# Altium schematic symbol library kmilo17pet-Maxim_Sensors.SchLib: 1172 symbols (part 39 of 61)
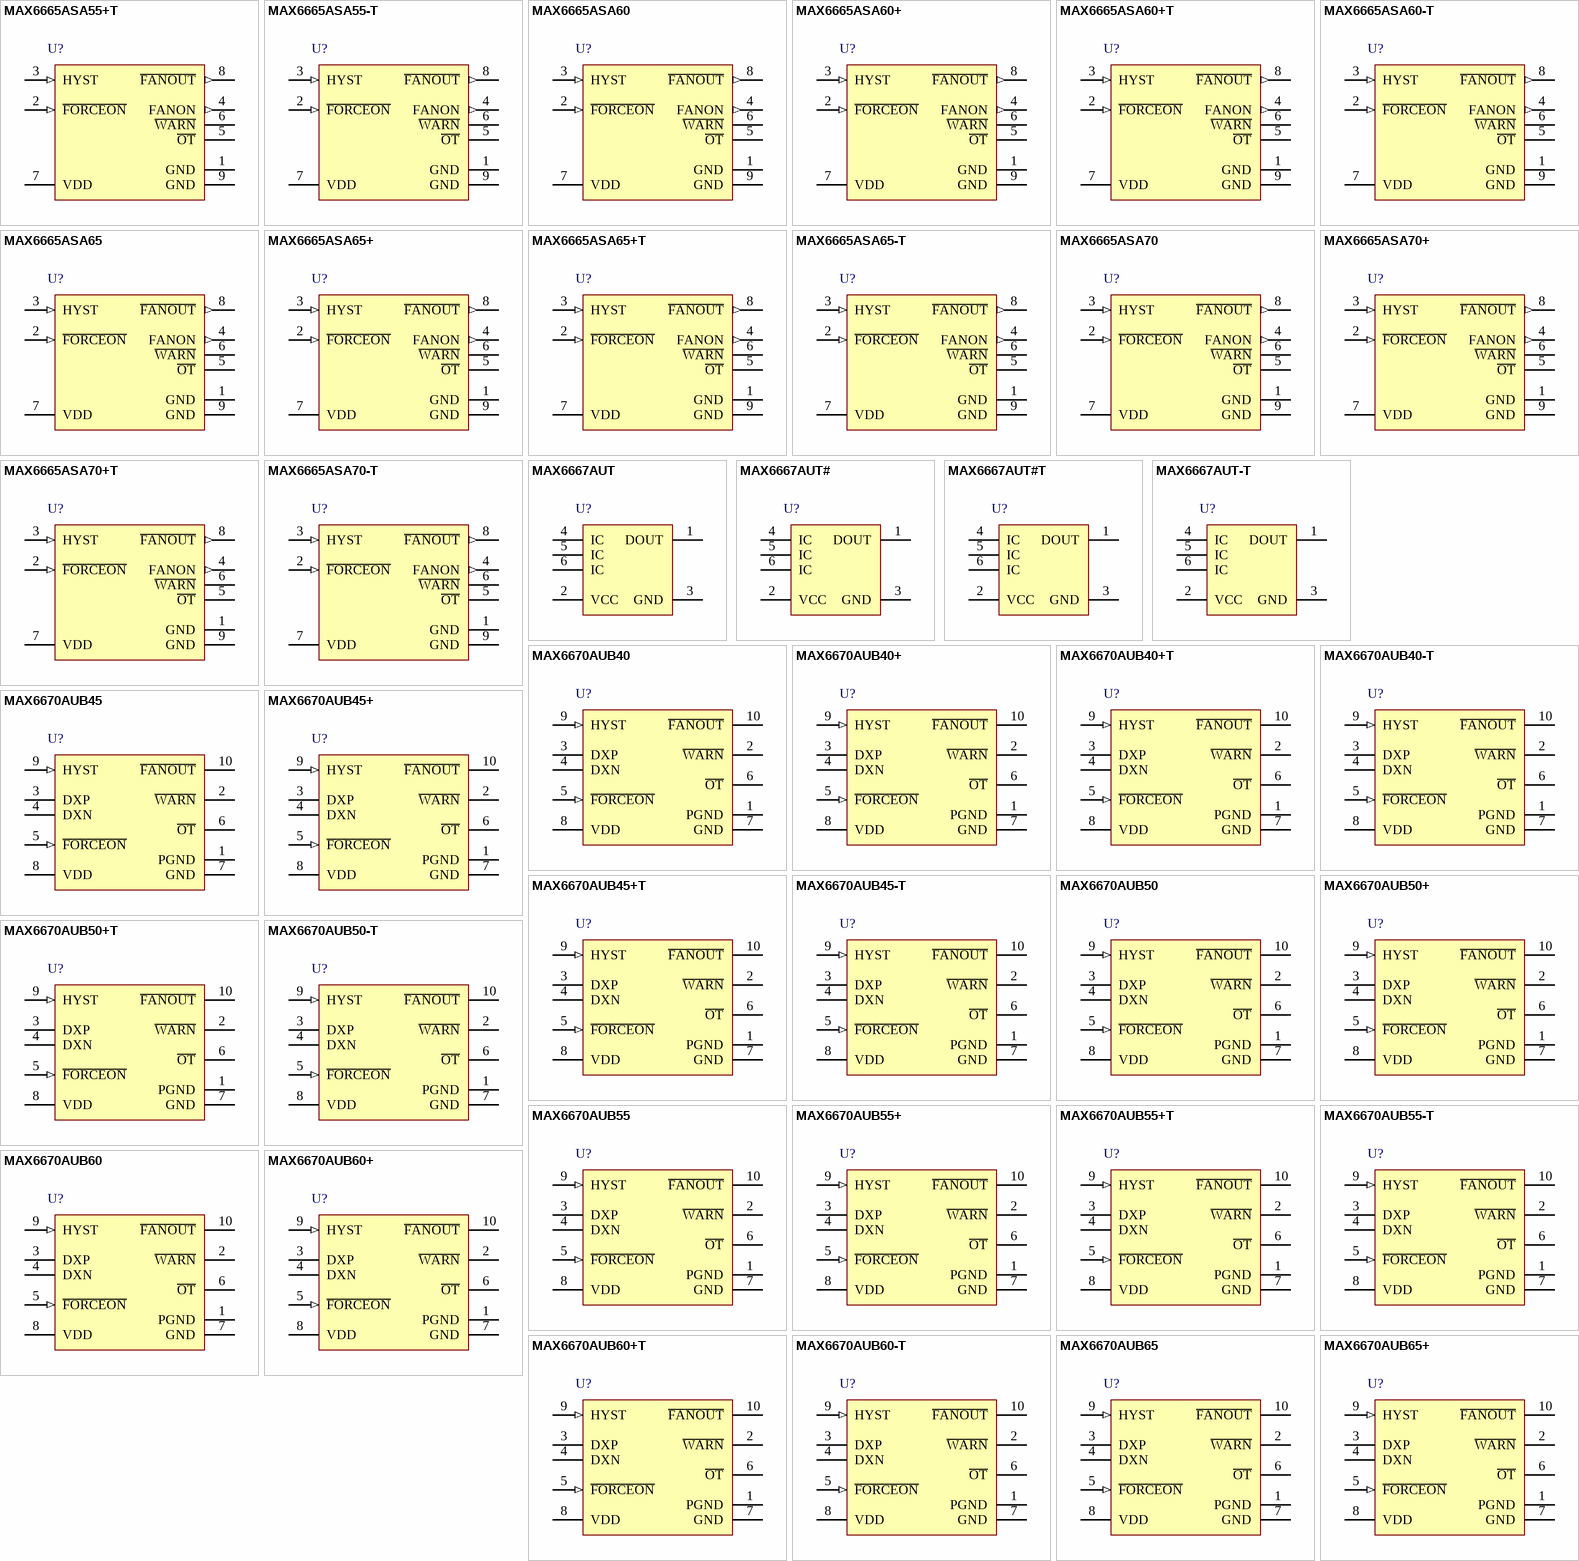
[diagram p71: symbols MAX6665ASA55+T to MAX6670AUB65+]

## MAX6665ASA65-T
designator U?
Fan Controller / Driver with Factory-Programmed Temperature Thresholds, -40 to 125 degC, 8-Pin SOIC (S8E-14), Tape and Reel; Generic Part Number: MAX6665; PartNumber: MAX6665ASA65-T; Fan Cntrl.: Linear; Fan Controller Functions: Temperature Switch/Temperature Comparator; Interface: Logic; DatasheetVersion: Rev. 0; PackageVersion: Rev. E, 01/2009; PackageReference: S8E-14; PackageDescription: 8-Pin Small-Outline IC, Narrow, Body 3.9 x 4.89 mm, Exposed Pad 2.945 x 2.26 mm, Pitch 1.27 mm; Supplier 1: Mouser; Supplier Part Number 1: N/A; Packing: Tape and Reel; Mounting Technology: Surface Mount; Code_JEDEC: MS-012; ComponentLink1Description: Manufacturer URL; ComponentLink1URL: http://www.maximintegrated.com/; ComponentLink2Description: Datasheet; ComponentLink2URL: http://datasheets.maximintegrated.com/en/ds/MAX6665.pdf; ComponentLink3Description: Package Specification; ComponentLink3URL: http://pdfserv.maximintegrated.com/package_dwgs/21-0111.PDF
footprint MAXM-S8E-14_N (SOIC, 8-Leads, Body 4.89x3.9mm, Pitch 1.27mm, Thermal Pad 2.945x2.26mm, IPC Medium Density)
footprint MAXM-S8E-14_L (SOIC, 8-Leads, Body 4.89x3.9mm, Pitch 1.27mm, Thermal Pad 2.945x2.26mm, IPC High Density)
footprint MAXM-S8E-14_M (SOIC, 8-Leads, Body 4.89x3.9mm, Pitch 1.27mm, Thermal Pad 2.945x2.26mm, IPC Low Density)
pins: 1 GND (power) "Ground", 2 ~{FORCEON} (in) "Force Fan On Input. Set F\O\R\C\E\O\N\ low to force the fan switch on. Set F\O\R\C\E\O\N\ high for normal operation.", 3 HYST (in) "Three-State Hysteresis Input. Connect HYST to VDD for 8degC, GND for 4degC, and leave HYST unconnected for 1degreesC hysteresis.", 4 FANON (out) "Fan-On Indicator Output. Push-pull output. FANON is high when the fan switch is on. FANON is low when the fan switch is off.", 5 ~{OT} (oc) "Overtemperature Output. Active-low when the temperature is 30degC above the fan threshold. Open-drain output, requires resistive pullup.", 6 ~{WARN} (oc) "Overtemperature Warning Output. Active-low when the temperature is 15degC above the fan threshold. Open-drain output, requires resistive pullup.", 7 VDD (power) "Supply Voltage. Bypass with a 1uF capacitor to GND as close to VDD pin as possible.", 8 ~{FANOUT} (out) "Fan-Switch (Driver) Output. Connect to the low side of a fan.", 9 GND (power) "Ground"

## MAX6665ASA70
designator U?
Fan Controller / Driver with Factory-Programmed Temperature Thresholds, -40 to 125 degC, 8-Pin SOIC (S8E-14); Generic Part Number: MAX6665; PartNumber: MAX6665ASA70; Fan Cntrl.: Linear; Fan Controller Functions: Temperature Switch/Temperature Comparator; Interface: Logic; DatasheetVersion: Rev. 0; PackageVersion: Rev. E, 01/2009; PackageReference: S8E-14; PackageDescription: 8-Pin Small-Outline IC, Narrow, Body 3.9 x 4.89 mm, Exposed Pad 2.945 x 2.26 mm, Pitch 1.27 mm; Supplier 1: Mouser; Supplier Part Number 1: N/A; Mounting Technology: Surface Mount; Code_JEDEC: MS-012; ComponentLink1Description: Manufacturer URL; ComponentLink1URL: http://www.maximintegrated.com/; ComponentLink2Description: Datasheet; ComponentLink2URL: http://datasheets.maximintegrated.com/en/ds/MAX6665.pdf; ComponentLink3Description: Package Specification; ComponentLink3URL: http://pdfserv.maximintegrated.com/package_dwgs/21-0111.PDF
footprint MAXM-S8E-14_N (SOIC, 8-Leads, Body 4.89x3.9mm, Pitch 1.27mm, Thermal Pad 2.945x2.26mm, IPC Medium Density)
footprint MAXM-S8E-14_L (SOIC, 8-Leads, Body 4.89x3.9mm, Pitch 1.27mm, Thermal Pad 2.945x2.26mm, IPC High Density)
footprint MAXM-S8E-14_M (SOIC, 8-Leads, Body 4.89x3.9mm, Pitch 1.27mm, Thermal Pad 2.945x2.26mm, IPC Low Density)
pins: 1 GND (power) "Ground", 2 ~{FORCEON} (in) "Force Fan On Input. Set F\O\R\C\E\O\N\ low to force the fan switch on. Set F\O\R\C\E\O\N\ high for normal operation.", 3 HYST (in) "Three-State Hysteresis Input. Connect HYST to VDD for 8degC, GND for 4degC, and leave HYST unconnected for 1degreesC hysteresis.", 4 FANON (out) "Fan-On Indicator Output. Push-pull output. FANON is high when the fan switch is on. FANON is low when the fan switch is off.", 5 ~{OT} (oc) "Overtemperature Output. Active-low when the temperature is 30degC above the fan threshold. Open-drain output, requires resistive pullup.", 6 ~{WARN} (oc) "Overtemperature Warning Output. Active-low when the temperature is 15degC above the fan threshold. Open-drain output, requires resistive pullup.", 7 VDD (power) "Supply Voltage. Bypass with a 1uF capacitor to GND as close to VDD pin as possible.", 8 ~{FANOUT} (out) "Fan-Switch (Driver) Output. Connect to the low side of a fan.", 9 GND (power) "Ground"

## MAX6665ASA70+
designator U?
Fan Controller / Driver with Factory-Programmed Temperature Thresholds, -40 to 125 degC, 8-Pin SOIC (S8E+14), Pb-Free; Generic Part Number: MAX6665; PartNumber: MAX6665ASA70+; Fan Cntrl.: Linear; Fan Controller Functions: Temperature Switch/Temperature Comparator; Interface: Logic; DatasheetVersion: Rev. 0; PackageVersion: Rev. E, 01/2009; PackageReference: S8E+14; PackageDescription: 8-Pin Small-Outline IC, Narrow, Body 3.9 x 4.89 mm, Exposed Pad 2.945 x 2.26 mm, Pitch 1.27 mm; Supplier 1: Digi-Key; Supplier Part Number 1: MAX6665ASA70+-ND; Supplier 2: Mouser; Supplier Part Number 2: 700-MAX6665ASA70; Mounting Technology: Surface Mount; Code_JEDEC: MS-012; ComponentLink1Description: Manufacturer URL; ComponentLink1URL: http://www.maximintegrated.com/; ComponentLink2Description: Datasheet; ComponentLink2URL: http://datasheets.maximintegrated.com/en/ds/MAX6665.pdf; ComponentLink3Description: Package Specification; ComponentLink3URL: http://pdfserv.maximintegrated.com/package_dwgs/21-0111.PDF
footprint MAXM-S8E+14_N (SOIC, 8-Leads, Body 4.89x3.9mm, Pitch 1.27mm, Thermal Pad 2.945x2.26mm, IPC Medium Density)
footprint MAXM-S8E+14_L (SOIC, 8-Leads, Body 4.89x3.9mm, Pitch 1.27mm, Thermal Pad 2.945x2.26mm, IPC High Density)
footprint MAXM-S8E+14_M (SOIC, 8-Leads, Body 4.89x3.9mm, Pitch 1.27mm, Thermal Pad 2.945x2.26mm, IPC Low Density)
pins: 1 GND (power) "Ground", 2 ~{FORCEON} (in) "Force Fan On Input. Set F\O\R\C\E\O\N\ low to force the fan switch on. Set F\O\R\C\E\O\N\ high for normal operation.", 3 HYST (in) "Three-State Hysteresis Input. Connect HYST to VDD for 8degC, GND for 4degC, and leave HYST unconnected for 1degreesC hysteresis.", 4 FANON (out) "Fan-On Indicator Output. Push-pull output. FANON is high when the fan switch is on. FANON is low when the fan switch is off.", 5 ~{OT} (oc) "Overtemperature Output. Active-low when the temperature is 30degC above the fan threshold. Open-drain output, requires resistive pullup.", 6 ~{WARN} (oc) "Overtemperature Warning Output. Active-low when the temperature is 15degC above the fan threshold. Open-drain output, requires resistive pullup.", 7 VDD (power) "Supply Voltage. Bypass with a 1uF capacitor to GND as close to VDD pin as possible.", 8 ~{FANOUT} (out) "Fan-Switch (Driver) Output. Connect to the low side of a fan.", 9 GND (power) "Ground"

## MAX6665ASA70+T
designator U?
Fan Controller / Driver with Factory-Programmed Temperature Thresholds, -40 to 125 degC, 8-Pin SOIC (S8E+14), Pb-Free, Tape and Reel; Generic Part Number: MAX6665; PartNumber: MAX6665ASA70+T; Fan Cntrl.: Linear; Fan Controller Functions: Temperature Switch/Temperature Comparator; Interface: Logic; DatasheetVersion: Rev. 0; PackageVersion: Rev. E, 01/2009; PackageReference: S8E+14; PackageDescription: 8-Pin Small-Outline IC, Narrow, Body 3.9 x 4.89 mm, Exposed Pad 2.945 x 2.26 mm, Pitch 1.27 mm; Supplier 1: Digi-Key; Supplier Part Number 1: MAX6665ASA70+T-ND; Supplier 2: Mouser; Supplier Part Number 2: 700-MAX6665ASA70T; Packing: Tape and Reel; Mounting Technology: Surface Mount; Code_JEDEC: MS-012; ComponentLink1Description: Manufacturer URL; ComponentLink1URL: http://www.maximintegrated.com/; ComponentLink2Description: Datasheet; ComponentLink2URL: http://datasheets.maximintegrated.com/en/ds/MAX6665.pdf; ComponentLink3Description: Package Specification; ComponentLink3URL: http://pdfserv.maximintegrated.com/package_dwgs/21-0111.PDF
footprint MAXM-S8E+14_N (SOIC, 8-Leads, Body 4.89x3.9mm, Pitch 1.27mm, Thermal Pad 2.945x2.26mm, IPC Medium Density)
footprint MAXM-S8E+14_L (SOIC, 8-Leads, Body 4.89x3.9mm, Pitch 1.27mm, Thermal Pad 2.945x2.26mm, IPC High Density)
footprint MAXM-S8E+14_M (SOIC, 8-Leads, Body 4.89x3.9mm, Pitch 1.27mm, Thermal Pad 2.945x2.26mm, IPC Low Density)
pins: 1 GND (power) "Ground", 2 ~{FORCEON} (in) "Force Fan On Input. Set F\O\R\C\E\O\N\ low to force the fan switch on. Set F\O\R\C\E\O\N\ high for normal operation.", 3 HYST (in) "Three-State Hysteresis Input. Connect HYST to VDD for 8degC, GND for 4degC, and leave HYST unconnected for 1degreesC hysteresis.", 4 FANON (out) "Fan-On Indicator Output. Push-pull output. FANON is high when the fan switch is on. FANON is low when the fan switch is off.", 5 ~{OT} (oc) "Overtemperature Output. Active-low when the temperature is 30degC above the fan threshold. Open-drain output, requires resistive pullup.", 6 ~{WARN} (oc) "Overtemperature Warning Output. Active-low when the temperature is 15degC above the fan threshold. Open-drain output, requires resistive pullup.", 7 VDD (power) "Supply Voltage. Bypass with a 1uF capacitor to GND as close to VDD pin as possible.", 8 ~{FANOUT} (out) "Fan-Switch (Driver) Output. Connect to the low side of a fan.", 9 GND (power) "Ground"

## MAX6665ASA70-T
designator U?
Fan Controller / Driver with Factory-Programmed Temperature Thresholds, -40 to 125 degC, 8-Pin SOIC (S8E-14), Tape and Reel; Generic Part Number: MAX6665; PartNumber: MAX6665ASA70-T; Fan Cntrl.: Linear; Fan Controller Functions: Temperature Switch/Temperature Comparator; Interface: Logic; DatasheetVersion: Rev. 0; PackageVersion: Rev. E, 01/2009; PackageReference: S8E-14; PackageDescription: 8-Pin Small-Outline IC, Narrow, Body 3.9 x 4.89 mm, Exposed Pad 2.945 x 2.26 mm, Pitch 1.27 mm; Supplier 1: Mouser; Supplier Part Number 1: N/A; Packing: Tape and Reel; Mounting Technology: Surface Mount; Code_JEDEC: MS-012; ComponentLink1Description: Manufacturer URL; ComponentLink1URL: http://www.maximintegrated.com/; ComponentLink2Description: Datasheet; ComponentLink2URL: http://datasheets.maximintegrated.com/en/ds/MAX6665.pdf; ComponentLink3Description: Package Specification; ComponentLink3URL: http://pdfserv.maximintegrated.com/package_dwgs/21-0111.PDF
footprint MAXM-S8E-14_N (SOIC, 8-Leads, Body 4.89x3.9mm, Pitch 1.27mm, Thermal Pad 2.945x2.26mm, IPC Medium Density)
footprint MAXM-S8E-14_L (SOIC, 8-Leads, Body 4.89x3.9mm, Pitch 1.27mm, Thermal Pad 2.945x2.26mm, IPC High Density)
footprint MAXM-S8E-14_M (SOIC, 8-Leads, Body 4.89x3.9mm, Pitch 1.27mm, Thermal Pad 2.945x2.26mm, IPC Low Density)
pins: 1 GND (power) "Ground", 2 ~{FORCEON} (in) "Force Fan On Input. Set F\O\R\C\E\O\N\ low to force the fan switch on. Set F\O\R\C\E\O\N\ high for normal operation.", 3 HYST (in) "Three-State Hysteresis Input. Connect HYST to VDD for 8degC, GND for 4degC, and leave HYST unconnected for 1degreesC hysteresis.", 4 FANON (out) "Fan-On Indicator Output. Push-pull output. FANON is high when the fan switch is on. FANON is low when the fan switch is off.", 5 ~{OT} (oc) "Overtemperature Output. Active-low when the temperature is 30degC above the fan threshold. Open-drain output, requires resistive pullup.", 6 ~{WARN} (oc) "Overtemperature Warning Output. Active-low when the temperature is 15degC above the fan threshold. Open-drain output, requires resistive pullup.", 7 VDD (power) "Supply Voltage. Bypass with a 1uF capacitor to GND as close to VDD pin as possible.", 8 ~{FANOUT} (out) "Fan-Switch (Driver) Output. Connect to the low side of a fan.", 9 GND (power) "Ground"

## MAX6667AUT
designator U?
12-Bit Plus Sign Temperature Sensor with I2C / SMBus-Compatible Serial Interface, 13 Bits Temperature Resolution, -55 to 150 degC, 8-Pin SOIC (S8+2), Pb-Free, Tape and Reel; Generic Part Number: MAX6667; PartNumber: MAX6667AUT; Interface: PWM; Parasite Pwr.: No; DatasheetVersion: Rev. 3; PackageVersion: Rev. N, 08/2012; PackageReference: U6F-6; PackageDescription: 6-Pin Small-Outline Transistor Package, Body 1.625 x 2.9 mm, Pitch 0.95 mm; Supplier 1: Mouser; Supplier Part Number 1: N/A; Mounting Technology: Surface Mount; Code_JEDEC: MO-178; ComponentLink1Description: Manufacturer URL; ComponentLink1URL: http://www.maximintegrated.com/; ComponentLink2Description: Datasheet; ComponentLink2URL: http://datasheets.maximintegrated.com/en/ds/MAX6666-MAX6667.pdf; ComponentLink3Description: Package Specification; ComponentLink3URL: http://pdfserv.maximintegrated.com/package_dwgs/21-0058.PDF
footprint MAXM-U6F-6_N (SOT23, 6-Leads, Body 2.9x1.625mm, Pitch 0.95mm, IPC Medium Density)
footprint MAXM-U6F-6_L (SOT23, 6-Leads, Body 2.9x1.625mm, Pitch 0.95mm, IPC High Density)
footprint MAXM-U6F-6_M (SOT23, 6-Leads, Body 2.9x1.625mm, Pitch 0.95mm, IPC Low Density)
pins: 1 DOUT (oc) "Digital Output Pin. The pulse width of the output waveform is modulated by the temperature.", 2 VCC (power) "Supply Voltage", 3 GND (power) "Ground", 4 IC "Internally Connected. Leave I.C. unconnected or connect to GND.", 5 IC "Internally Connected. Leave I.C. unconnected or connect to GND.", 6 IC "Internally Connected. Leave I.C. unconnected or connect to GND."

## MAX6667AUT#
designator U?
12-Bit Plus Sign Temperature Sensor with I2C / SMBus-Compatible Serial Interface, 13 Bits Temperature Resolution, -55 to 150 degC, 8-Pin SOIC (S8+2), Pb-Free, Tape and Reel; Generic Part Number: MAX6667; PartNumber: MAX6667AUT#; Interface: PWM; Parasite Pwr.: No; DatasheetVersion: Rev. 3; PackageVersion: Rev. N, 08/2012; PackageReference: U6FH-6; PackageDescription: 6-Pin Small-Outline Transistor Package, Body 1.625 x 2.9 mm, Pitch 0.95 mm; Supplier 1: Mouser; Supplier Part Number 1: N/A; Mounting Technology: Surface Mount; Code_JEDEC: MO-178; ComponentLink1Description: Manufacturer URL; ComponentLink1URL: http://www.maximintegrated.com/; ComponentLink2Description: Datasheet; ComponentLink2URL: http://datasheets.maximintegrated.com/en/ds/MAX6666-MAX6667.pdf; ComponentLink3Description: Package Specification; ComponentLink3URL: http://pdfserv.maximintegrated.com/package_dwgs/21-0058.PDF
footprint MAXM-U6FH-6_N (SPT23, 6-Leads, Body 2.9x1.625mm, Pitch 0.95mm, IPC Medium Density)
footprint MAXM-U6FH-6_L (SOT23, 6-Leads, Body 2.9x1.625mm, Pitch 0.95mm, IPC High Density)
footprint MAXM-U6FH-6_M (SOT23, 6-Leads, Body 2.9x1.625mm, Pitch 0.95mm, IPC Low Density)
pins: 1 DOUT (oc) "Digital Output Pin. The pulse width of the output waveform is modulated by the temperature.", 2 VCC (power) "Supply Voltage", 3 GND (power) "Ground", 4 IC "Internally Connected. Leave I.C. unconnected or connect to GND.", 5 IC "Internally Connected. Leave I.C. unconnected or connect to GND.", 6 IC "Internally Connected. Leave I.C. unconnected or connect to GND."

## MAX6667AUT#T
designator U?
12-Bit Plus Sign Temperature Sensor with I2C / SMBus-Compatible Serial Interface, 13 Bits Temperature Resolution, -55 to 150 degC, 8-Pin SOIC (S8+2), Pb-Free, Tape and Reel; Generic Part Number: MAX6667; PartNumber: MAX6667AUT#T; Interface: PWM; Parasite Pwr.: No; DatasheetVersion: Rev. 3; PackageVersion: Rev. N, 08/2012; PackageReference: U6FH-6; PackageDescription: 6-Pin Small-Outline Transistor Package, Body 1.625 x 2.9 mm, Pitch 0.95 mm; Supplier 1: Digi-Key; Supplier Part Number 1: MAX6667AUT#T-ND; Supplier 2: Mouser; Supplier Part Number 2: 700-MAX6667AUT#T; Packing: Tape and Reel; Mounting Technology: Surface Mount; Code_JEDEC: MO-178; ComponentLink1Description: Manufacturer URL; ComponentLink1URL: http://www.maximintegrated.com/; ComponentLink2Description: Datasheet; ComponentLink2URL: http://datasheets.maximintegrated.com/en/ds/MAX6666-MAX6667.pdf; ComponentLink3Description: Package Specification; ComponentLink3URL: http://pdfserv.maximintegrated.com/package_dwgs/21-0058.PDF
footprint MAXM-U6FH-6_N (SPT23, 6-Leads, Body 2.9x1.625mm, Pitch 0.95mm, IPC Medium Density)
footprint MAXM-U6FH-6_L (SOT23, 6-Leads, Body 2.9x1.625mm, Pitch 0.95mm, IPC High Density)
footprint MAXM-U6FH-6_M (SOT23, 6-Leads, Body 2.9x1.625mm, Pitch 0.95mm, IPC Low Density)
pins: 1 DOUT (oc) "Digital Output Pin. The pulse width of the output waveform is modulated by the temperature.", 2 VCC (power) "Supply Voltage", 3 GND (power) "Ground", 4 IC "Internally Connected. Leave I.C. unconnected or connect to GND.", 5 IC "Internally Connected. Leave I.C. unconnected or connect to GND.", 6 IC "Internally Connected. Leave I.C. unconnected or connect to GND."

## MAX6667AUT-T
designator U?
12-Bit Plus Sign Temperature Sensor with I2C / SMBus-Compatible Serial Interface, 13 Bits Temperature Resolution, -55 to 150 degC, 8-Pin SOIC (S8+2), Pb-Free, Tape and Reel; Generic Part Number: MAX6667; PartNumber: MAX6667AUT-T; Interface: PWM; Parasite Pwr.: No; DatasheetVersion: Rev. 3; PackageVersion: Rev. N, 08/2012; PackageReference: U6F-6; PackageDescription: 6-Pin Small-Outline Transistor Package, Body 1.625 x 2.9 mm, Pitch 0.95 mm; Supplier 1: Mouser; Supplier Part Number 1: N/A; Packing: Tape and Reel; Mounting Technology: Surface Mount; Code_JEDEC: MO-178; ComponentLink1Description: Manufacturer URL; ComponentLink1URL: http://www.maximintegrated.com/; ComponentLink2Description: Datasheet; ComponentLink2URL: http://datasheets.maximintegrated.com/en/ds/MAX6666-MAX6667.pdf; ComponentLink3Description: Package Specification; ComponentLink3URL: http://pdfserv.maximintegrated.com/package_dwgs/21-0058.PDF
footprint MAXM-U6F-6_N (SOT23, 6-Leads, Body 2.9x1.625mm, Pitch 0.95mm, IPC Medium Density)
footprint MAXM-U6F-6_L (SOT23, 6-Leads, Body 2.9x1.625mm, Pitch 0.95mm, IPC High Density)
footprint MAXM-U6F-6_M (SOT23, 6-Leads, Body 2.9x1.625mm, Pitch 0.95mm, IPC Low Density)
pins: 1 DOUT (oc) "Digital Output Pin. The pulse width of the output waveform is modulated by the temperature.", 2 VCC (power) "Supply Voltage", 3 GND (power) "Ground", 4 IC "Internally Connected. Leave I.C. unconnected or connect to GND.", 5 IC "Internally Connected. Leave I.C. unconnected or connect to GND.", 6 IC "Internally Connected. Leave I.C. unconnected or connect to GND."

## MAX6670AUB40
designator U?
Remote Temperature Switch with Integrated Fan Driver, Bits Tempearture Resolution, -40 to 125 degC, 10-Pin SOP (U10CN-1); Generic Part Number: MAX6670; PartNumber: MAX6670AUB40; Fan Cntrl.: Linear; Fan Controller Functions: Temperature Switch/Temperature Comparator; Interface: Logic; DatasheetVersion: Rev. 2; PackageVersion: Rev. L, 07/2008; PackageReference: U10CN-1; PackageDescription: 10-Pin Micro-MAX, Thin Shrink Small-Outline (U10CN-1), Body 3 x 3 mm, Pitch 0.5 mm; Supplier 1: Mouser; Supplier Part Number 1: N/A; Mounting Technology: Surface Mount; Code_JEDEC: MO-187; ComponentLink1Description: Manufacturer URL; ComponentLink1URL: http://www.maximintegrated.com/; ComponentLink2Description: Datasheet; ComponentLink2URL: http://datasheets.maximintegrated.com/en/ds/MAX6668-MAX6670.pdf; ComponentLink3Description: Package Specification; ComponentLink3URL: http://pdfserv.maximintegrated.com/package_dwgs/21-0061.PDF
footprint MAXM-U10CN-1_N (SOP, 10-Leads, Body 3x3mm, Pitch 0.5mm, IPC Medium Density)
footprint MAXM-U10CN-1_L (SOP, 10-Leads, Body 3x3mm, Pitch 0.5mm, IPC High Density)
footprint MAXM-U10CN-1_M (SOP, 10-Leads, Body 3x3mm, Pitch 0.5mm, IPC Low Density)
pins: 1 PGND (power) "Power Ground. PGND is the power ground for the F\A\N\O\U\T\ power MOSFET switch.", 2 ~{WARN} (oc) "Temperature Warning Output. W\A\R\N\ is an open-drain output that goes low when the sensed junction temperature is 15degreesC higher than the fan trip threshold", 3 DXP "Current Source Positive Input. Connect to the anode of the external diodeconnected transistor. Do not leave DXP floating. Connect a 2200pF capacitor between DXP and DXN for noise filtering.", 4 DXN "Current Sink Negative Input. Connect to the cathode of the external diodeconnected transistor. DXN is internally biased to a diode voltage drop.", 5 ~{FORCEON} (in) "Fan-Control Input. Drive F\O\R\C\E\O\N\ high for normal operation. Drive F\O\R\C\E\O\N\ low to force fan on.", 6 ~{OT} (oc) "Overtemperature Output. O\T\ is an open-drain output that goes low when the sensed junction temperature is 30degC higher than the fan trip threshold.", 7 GND (power) "Ground", 8 VDD (power) "Positive Power Supply", 9 HYST (in) "Hysteresis Control Input. HYST is a three-level logic input for controlling the fandrive comparator’s hysteresis. Connect HYST to GND for 4degreesC hysteresis, to VDD for 12degreesC hysteresis, or leave floating for (See Datasheet)", 10 ~{FANOUT} (oc) "Fan-Drive Output. F\A\N\O\U\T\ is an open-drain power MOSFET that sinks up to 250mA current to turn on the fan when the sensed temperature exceeds the fan trip threshold or the fan is forced on by driving F\O\R\C\E\O\N\ low."

## MAX6670AUB40+
designator U?
Remote Temperature Switch with Integrated Fan Driver, Bits Tempearture Resolution, -40 to 125 degC, 10-Pin SOP (U10CN+1), Pb-Free; Generic Part Number: MAX6670; PartNumber: MAX6670AUB40+; Fan Cntrl.: Linear; Fan Controller Functions: Temperature Switch/Temperature Comparator; Interface: Logic; DatasheetVersion: Rev. 2; PackageVersion: Rev. L, 07/2008; PackageReference: U10CN+1; PackageDescription: 10-Pin Micro-MAX, Thin Shrink Small-Outline (U10CN+1), Body 3 x 3 mm, Pitch 0.5 mm; Supplier 1: Digi-Key; Supplier Part Number 1: MAX6670AUB40+-ND; Supplier 2: Mouser; Supplier Part Number 2: 700-MAX6670AUB40; Mounting Technology: Surface Mount; Code_JEDEC: MO-187; ComponentLink1Description: Manufacturer URL; ComponentLink1URL: http://www.maximintegrated.com/; ComponentLink2Description: Datasheet; ComponentLink2URL: http://datasheets.maximintegrated.com/en/ds/MAX6668-MAX6670.pdf; ComponentLink3Description: Package Specification; ComponentLink3URL: http://pdfserv.maximintegrated.com/package_dwgs/21-0061.PDF
footprint MAXM-U10CN+1_N (SOP, 10-Leads, Body 3x3mm, Pitch 0.5mm, IPC Medium Density)
footprint MAXM-U10CN+1_L (SOP, 10-Leads, Body 3x3mm, Pitch 0.5mm, IPC High Density)
footprint MAXM-U10CN+1_M (SOP, 10-Leads, Body 3x3mm, Pitch 0.5mm, IPC Low Density)
pins: 1 PGND (power) "Power Ground. PGND is the power ground for the F\A\N\O\U\T\ power MOSFET switch.", 2 ~{WARN} (oc) "Temperature Warning Output. W\A\R\N\ is an open-drain output that goes low when the sensed junction temperature is 15degreesC higher than the fan trip threshold", 3 DXP "Current Source Positive Input. Connect to the anode of the external diodeconnected transistor. Do not leave DXP floating. Connect a 2200pF capacitor between DXP and DXN for noise filtering.", 4 DXN "Current Sink Negative Input. Connect to the cathode of the external diodeconnected transistor. DXN is internally biased to a diode voltage drop.", 5 ~{FORCEON} (in) "Fan-Control Input. Drive F\O\R\C\E\O\N\ high for normal operation. Drive F\O\R\C\E\O\N\ low to force fan on.", 6 ~{OT} (oc) "Overtemperature Output. O\T\ is an open-drain output that goes low when the sensed junction temperature is 30degC higher than the fan trip threshold.", 7 GND (power) "Ground", 8 VDD (power) "Positive Power Supply", 9 HYST (in) "Hysteresis Control Input. HYST is a three-level logic input for controlling the fandrive comparator’s hysteresis. Connect HYST to GND for 4degreesC hysteresis, to VDD for 12degreesC hysteresis, or leave floating for (See Datasheet)", 10 ~{FANOUT} (oc) "Fan-Drive Output. F\A\N\O\U\T\ is an open-drain power MOSFET that sinks up to 250mA current to turn on the fan when the sensed temperature exceeds the fan trip threshold or the fan is forced on by driving F\O\R\C\E\O\N\ low."

## MAX6670AUB40+T
designator U?
Remote Temperature Switch with Integrated Fan Driver, Bits Tempearture Resolution, -40 to 125 degC, 10-Pin SOP (U10CN+1), Pb-Free, Tape and Reel; Generic Part Number: MAX6670; PartNumber: MAX6670AUB40+T; Fan Cntrl.: Linear; Fan Controller Functions: Temperature Switch/Temperature Comparator; Interface: Logic; DatasheetVersion: Rev. 2; PackageVersion: Rev. L, 07/2008; PackageReference: U10CN+1; PackageDescription: 10-Pin Micro-MAX, Thin Shrink Small-Outline (U10CN+1), Body 3 x 3 mm, Pitch 0.5 mm; Supplier 1: Digi-Key; Supplier Part Number 1: MAX6670AUB40+T-ND; Supplier 2: Mouser; Supplier Part Number 2: 700-MAX6670AUB40T; Packing: Tape and Reel; Mounting Technology: Surface Mount; Code_JEDEC: MO-187; ComponentLink1Description: Manufacturer URL; ComponentLink1URL: http://www.maximintegrated.com/; ComponentLink2Description: Datasheet; ComponentLink2URL: http://datasheets.maximintegrated.com/en/ds/MAX6668-MAX6670.pdf; ComponentLink3Description: Package Specification; ComponentLink3URL: http://pdfserv.maximintegrated.com/package_dwgs/21-0061.PDF
footprint MAXM-U10CN+1_N (SOP, 10-Leads, Body 3x3mm, Pitch 0.5mm, IPC Medium Density)
footprint MAXM-U10CN+1_L (SOP, 10-Leads, Body 3x3mm, Pitch 0.5mm, IPC High Density)
footprint MAXM-U10CN+1_M (SOP, 10-Leads, Body 3x3mm, Pitch 0.5mm, IPC Low Density)
pins: 1 PGND (power) "Power Ground. PGND is the power ground for the F\A\N\O\U\T\ power MOSFET switch.", 2 ~{WARN} (oc) "Temperature Warning Output. W\A\R\N\ is an open-drain output that goes low when the sensed junction temperature is 15degreesC higher than the fan trip threshold", 3 DXP "Current Source Positive Input. Connect to the anode of the external diodeconnected transistor. Do not leave DXP floating. Connect a 2200pF capacitor between DXP and DXN for noise filtering.", 4 DXN "Current Sink Negative Input. Connect to the cathode of the external diodeconnected transistor. DXN is internally biased to a diode voltage drop.", 5 ~{FORCEON} (in) "Fan-Control Input. Drive F\O\R\C\E\O\N\ high for normal operation. Drive F\O\R\C\E\O\N\ low to force fan on.", 6 ~{OT} (oc) "Overtemperature Output. O\T\ is an open-drain output that goes low when the sensed junction temperature is 30degC higher than the fan trip threshold.", 7 GND (power) "Ground", 8 VDD (power) "Positive Power Supply", 9 HYST (in) "Hysteresis Control Input. HYST is a three-level logic input for controlling the fandrive comparator’s hysteresis. Connect HYST to GND for 4degreesC hysteresis, to VDD for 12degreesC hysteresis, or leave floating for (See Datasheet)", 10 ~{FANOUT} (oc) "Fan-Drive Output. F\A\N\O\U\T\ is an open-drain power MOSFET that sinks up to 250mA current to turn on the fan when the sensed temperature exceeds the fan trip threshold or the fan is forced on by driving F\O\R\C\E\O\N\ low."

## MAX6670AUB40-T
designator U?
Remote Temperature Switch with Integrated Fan Driver, Bits Tempearture Resolution, -40 to 125 degC, 10-Pin SOP (U10CN-1), Tape and Reel; Generic Part Number: MAX6670; PartNumber: MAX6670AUB40-T; Fan Cntrl.: Linear; Fan Controller Functions: Temperature Switch/Temperature Comparator; Interface: Logic; DatasheetVersion: Rev. 2; PackageVersion: Rev. L, 07/2008; PackageReference: U10CN-1; PackageDescription: 10-Pin Micro-MAX, Thin Shrink Small-Outline (U10CN-1), Body 3 x 3 mm, Pitch 0.5 mm; Supplier 1: Mouser; Supplier Part Number 1: N/A; Packing: Tape and Reel; Mounting Technology: Surface Mount; Code_JEDEC: MO-187; ComponentLink1Description: Manufacturer URL; ComponentLink1URL: http://www.maximintegrated.com/; ComponentLink2Description: Datasheet; ComponentLink2URL: http://datasheets.maximintegrated.com/en/ds/MAX6668-MAX6670.pdf; ComponentLink3Description: Package Specification; ComponentLink3URL: http://pdfserv.maximintegrated.com/package_dwgs/21-0061.PDF
footprint MAXM-U10CN-1_N (SOP, 10-Leads, Body 3x3mm, Pitch 0.5mm, IPC Medium Density)
footprint MAXM-U10CN-1_L (SOP, 10-Leads, Body 3x3mm, Pitch 0.5mm, IPC High Density)
footprint MAXM-U10CN-1_M (SOP, 10-Leads, Body 3x3mm, Pitch 0.5mm, IPC Low Density)
pins: 1 PGND (power) "Power Ground. PGND is the power ground for the F\A\N\O\U\T\ power MOSFET switch.", 2 ~{WARN} (oc) "Temperature Warning Output. W\A\R\N\ is an open-drain output that goes low when the sensed junction temperature is 15degreesC higher than the fan trip threshold", 3 DXP "Current Source Positive Input. Connect to the anode of the external diodeconnected transistor. Do not leave DXP floating. Connect a 2200pF capacitor between DXP and DXN for noise filtering.", 4 DXN "Current Sink Negative Input. Connect to the cathode of the external diodeconnected transistor. DXN is internally biased to a diode voltage drop.", 5 ~{FORCEON} (in) "Fan-Control Input. Drive F\O\R\C\E\O\N\ high for normal operation. Drive F\O\R\C\E\O\N\ low to force fan on.", 6 ~{OT} (oc) "Overtemperature Output. O\T\ is an open-drain output that goes low when the sensed junction temperature is 30degC higher than the fan trip threshold.", 7 GND (power) "Ground", 8 VDD (power) "Positive Power Supply", 9 HYST (in) "Hysteresis Control Input. HYST is a three-level logic input for controlling the fandrive comparator’s hysteresis. Connect HYST to GND for 4degreesC hysteresis, to VDD for 12degreesC hysteresis, or leave floating for (See Datasheet)", 10 ~{FANOUT} (oc) "Fan-Drive Output. F\A\N\O\U\T\ is an open-drain power MOSFET that sinks up to 250mA current to turn on the fan when the sensed temperature exceeds the fan trip threshold or the fan is forced on by driving F\O\R\C\E\O\N\ low."

## MAX6670AUB45
designator U?
Remote Temperature Switch with Integrated Fan Driver, Bits Tempearture Resolution, -40 to 125 degC, 10-Pin SOP (U10CN-1); Generic Part Number: MAX6670; PartNumber: MAX6670AUB45; Fan Cntrl.: Linear; Fan Controller Functions: Temperature Switch/Temperature Comparator; Interface: Logic; DatasheetVersion: Rev. 2; PackageVersion: Rev. L, 07/2008; PackageReference: U10CN-1; PackageDescription: 10-Pin Micro-MAX, Thin Shrink Small-Outline (U10CN-1), Body 3 x 3 mm, Pitch 0.5 mm; Supplier 1: Mouser; Supplier Part Number 1: N/A; Mounting Technology: Surface Mount; Code_JEDEC: MO-187; ComponentLink1Description: Manufacturer URL; ComponentLink1URL: http://www.maximintegrated.com/; ComponentLink2Description: Datasheet; ComponentLink2URL: http://datasheets.maximintegrated.com/en/ds/MAX6668-MAX6670.pdf; ComponentLink3Description: Package Specification; ComponentLink3URL: http://pdfserv.maximintegrated.com/package_dwgs/21-0061.PDF
footprint MAXM-U10CN-1_N (SOP, 10-Leads, Body 3x3mm, Pitch 0.5mm, IPC Medium Density)
footprint MAXM-U10CN-1_L (SOP, 10-Leads, Body 3x3mm, Pitch 0.5mm, IPC High Density)
footprint MAXM-U10CN-1_M (SOP, 10-Leads, Body 3x3mm, Pitch 0.5mm, IPC Low Density)
pins: 1 PGND (power) "Power Ground. PGND is the power ground for the F\A\N\O\U\T\ power MOSFET switch.", 2 ~{WARN} (oc) "Temperature Warning Output. W\A\R\N\ is an open-drain output that goes low when the sensed junction temperature is 15degreesC higher than the fan trip threshold", 3 DXP "Current Source Positive Input. Connect to the anode of the external diodeconnected transistor. Do not leave DXP floating. Connect a 2200pF capacitor between DXP and DXN for noise filtering.", 4 DXN "Current Sink Negative Input. Connect to the cathode of the external diodeconnected transistor. DXN is internally biased to a diode voltage drop.", 5 ~{FORCEON} (in) "Fan-Control Input. Drive F\O\R\C\E\O\N\ high for normal operation. Drive F\O\R\C\E\O\N\ low to force fan on.", 6 ~{OT} (oc) "Overtemperature Output. O\T\ is an open-drain output that goes low when the sensed junction temperature is 30degC higher than the fan trip threshold.", 7 GND (power) "Ground", 8 VDD (power) "Positive Power Supply", 9 HYST (in) "Hysteresis Control Input. HYST is a three-level logic input for controlling the fandrive comparator’s hysteresis. Connect HYST to GND for 4degreesC hysteresis, to VDD for 12degreesC hysteresis, or leave floating for (See Datasheet)", 10 ~{FANOUT} (oc) "Fan-Drive Output. F\A\N\O\U\T\ is an open-drain power MOSFET that sinks up to 250mA current to turn on the fan when the sensed temperature exceeds the fan trip threshold or the fan is forced on by driving F\O\R\C\E\O\N\ low."

## MAX6670AUB45+
designator U?
Remote Temperature Switch with Integrated Fan Driver, Bits Tempearture Resolution, -40 to 125 degC, 10-Pin SOP (U10CN+1), Pb-Free; Generic Part Number: MAX6670; PartNumber: MAX6670AUB45+; Fan Cntrl.: Linear; Fan Controller Functions: Temperature Switch/Temperature Comparator; Interface: Logic; DatasheetVersion: Rev. 2; PackageVersion: Rev. L, 07/2008; PackageReference: U10CN+1; PackageDescription: 10-Pin Micro-MAX, Thin Shrink Small-Outline (U10CN+1), Body 3 x 3 mm, Pitch 0.5 mm; Supplier 1: Digi-Key; Supplier Part Number 1: MAX6670AUB45+-ND; Supplier 2: Mouser; Supplier Part Number 2: 700-MAX6670AUB45; Mounting Technology: Surface Mount; Code_JEDEC: MO-187; ComponentLink1Description: Manufacturer URL; ComponentLink1URL: http://www.maximintegrated.com/; ComponentLink2Description: Datasheet; ComponentLink2URL: http://datasheets.maximintegrated.com/en/ds/MAX6668-MAX6670.pdf; ComponentLink3Description: Package Specification; ComponentLink3URL: http://pdfserv.maximintegrated.com/package_dwgs/21-0061.PDF
footprint MAXM-U10CN+1_N (SOP, 10-Leads, Body 3x3mm, Pitch 0.5mm, IPC Medium Density)
footprint MAXM-U10CN+1_L (SOP, 10-Leads, Body 3x3mm, Pitch 0.5mm, IPC High Density)
footprint MAXM-U10CN+1_M (SOP, 10-Leads, Body 3x3mm, Pitch 0.5mm, IPC Low Density)
pins: 1 PGND (power) "Power Ground. PGND is the power ground for the F\A\N\O\U\T\ power MOSFET switch.", 2 ~{WARN} (oc) "Temperature Warning Output. W\A\R\N\ is an open-drain output that goes low when the sensed junction temperature is 15degreesC higher than the fan trip threshold", 3 DXP "Current Source Positive Input. Connect to the anode of the external diodeconnected transistor. Do not leave DXP floating. Connect a 2200pF capacitor between DXP and DXN for noise filtering.", 4 DXN "Current Sink Negative Input. Connect to the cathode of the external diodeconnected transistor. DXN is internally biased to a diode voltage drop.", 5 ~{FORCEON} (in) "Fan-Control Input. Drive F\O\R\C\E\O\N\ high for normal operation. Drive F\O\R\C\E\O\N\ low to force fan on.", 6 ~{OT} (oc) "Overtemperature Output. O\T\ is an open-drain output that goes low when the sensed junction temperature is 30degC higher than the fan trip threshold.", 7 GND (power) "Ground", 8 VDD (power) "Positive Power Supply", 9 HYST (in) "Hysteresis Control Input. HYST is a three-level logic input for controlling the fandrive comparator’s hysteresis. Connect HYST to GND for 4degreesC hysteresis, to VDD for 12degreesC hysteresis, or leave floating for (See Datasheet)", 10 ~{FANOUT} (oc) "Fan-Drive Output. F\A\N\O\U\T\ is an open-drain power MOSFET that sinks up to 250mA current to turn on the fan when the sensed temperature exceeds the fan trip threshold or the fan is forced on by driving F\O\R\C\E\O\N\ low."

## MAX6670AUB45+T
designator U?
Remote Temperature Switch with Integrated Fan Driver, Bits Tempearture Resolution, -40 to 125 degC, 10-Pin SOP (U10CN+1), Pb-Free, Tape and Reel; Generic Part Number: MAX6670; PartNumber: MAX6670AUB45+T; Fan Cntrl.: Linear; Fan Controller Functions: Temperature Switch/Temperature Comparator; Interface: Logic; DatasheetVersion: Rev. 2; PackageVersion: Rev. L, 07/2008; PackageReference: U10CN+1; PackageDescription: 10-Pin Micro-MAX, Thin Shrink Small-Outline (U10CN+1), Body 3 x 3 mm, Pitch 0.5 mm; Supplier 1: Digi-Key; Supplier Part Number 1: MAX6670AUB45+T-ND; Supplier 2: Mouser; Supplier Part Number 2: 700-MAX6670AUB45T; Packing: Tape and Reel; Mounting Technology: Surface Mount; Code_JEDEC: MO-187; ComponentLink1Description: Manufacturer URL; ComponentLink1URL: http://www.maximintegrated.com/; ComponentLink2Description: Datasheet; ComponentLink2URL: http://datasheets.maximintegrated.com/en/ds/MAX6668-MAX6670.pdf; ComponentLink3Description: Package Specification; ComponentLink3URL: http://pdfserv.maximintegrated.com/package_dwgs/21-0061.PDF
footprint MAXM-U10CN+1_N (SOP, 10-Leads, Body 3x3mm, Pitch 0.5mm, IPC Medium Density)
footprint MAXM-U10CN+1_L (SOP, 10-Leads, Body 3x3mm, Pitch 0.5mm, IPC High Density)
footprint MAXM-U10CN+1_M (SOP, 10-Leads, Body 3x3mm, Pitch 0.5mm, IPC Low Density)
pins: 1 PGND (power) "Power Ground. PGND is the power ground for the F\A\N\O\U\T\ power MOSFET switch.", 2 ~{WARN} (oc) "Temperature Warning Output. W\A\R\N\ is an open-drain output that goes low when the sensed junction temperature is 15degreesC higher than the fan trip threshold", 3 DXP "Current Source Positive Input. Connect to the anode of the external diodeconnected transistor. Do not leave DXP floating. Connect a 2200pF capacitor between DXP and DXN for noise filtering.", 4 DXN "Current Sink Negative Input. Connect to the cathode of the external diodeconnected transistor. DXN is internally biased to a diode voltage drop.", 5 ~{FORCEON} (in) "Fan-Control Input. Drive F\O\R\C\E\O\N\ high for normal operation. Drive F\O\R\C\E\O\N\ low to force fan on.", 6 ~{OT} (oc) "Overtemperature Output. O\T\ is an open-drain output that goes low when the sensed junction temperature is 30degC higher than the fan trip threshold.", 7 GND (power) "Ground", 8 VDD (power) "Positive Power Supply", 9 HYST (in) "Hysteresis Control Input. HYST is a three-level logic input for controlling the fandrive comparator’s hysteresis. Connect HYST to GND for 4degreesC hysteresis, to VDD for 12degreesC hysteresis, or leave floating for (See Datasheet)", 10 ~{FANOUT} (oc) "Fan-Drive Output. F\A\N\O\U\T\ is an open-drain power MOSFET that sinks up to 250mA current to turn on the fan when the sensed temperature exceeds the fan trip threshold or the fan is forced on by driving F\O\R\C\E\O\N\ low."

## MAX6670AUB45-T
designator U?
Remote Temperature Switch with Integrated Fan Driver, Bits Tempearture Resolution, -40 to 125 degC, 10-Pin SOP (U10CN-1), Tape and Reel; Generic Part Number: MAX6670; PartNumber: MAX6670AUB45-T; Fan Cntrl.: Linear; Fan Controller Functions: Temperature Switch/Temperature Comparator; Interface: Logic; DatasheetVersion: Rev. 2; PackageVersion: Rev. L, 07/2008; PackageReference: U10CN-1; PackageDescription: 10-Pin Micro-MAX, Thin Shrink Small-Outline (U10CN-1), Body 3 x 3 mm, Pitch 0.5 mm; Supplier 1: Mouser; Supplier Part Number 1: N/A; Packing: Tape and Reel; Mounting Technology: Surface Mount; Code_JEDEC: MO-187; ComponentLink1Description: Manufacturer URL; ComponentLink1URL: http://www.maximintegrated.com/; ComponentLink2Description: Datasheet; ComponentLink2URL: http://datasheets.maximintegrated.com/en/ds/MAX6668-MAX6670.pdf; ComponentLink3Description: Package Specification; ComponentLink3URL: http://pdfserv.maximintegrated.com/package_dwgs/21-0061.PDF
footprint MAXM-U10CN-1_N (SOP, 10-Leads, Body 3x3mm, Pitch 0.5mm, IPC Medium Density)
footprint MAXM-U10CN-1_L (SOP, 10-Leads, Body 3x3mm, Pitch 0.5mm, IPC High Density)
footprint MAXM-U10CN-1_M (SOP, 10-Leads, Body 3x3mm, Pitch 0.5mm, IPC Low Density)
pins: 1 PGND (power) "Power Ground. PGND is the power ground for the F\A\N\O\U\T\ power MOSFET switch.", 2 ~{WARN} (oc) "Temperature Warning Output. W\A\R\N\ is an open-drain output that goes low when the sensed junction temperature is 15degreesC higher than the fan trip threshold", 3 DXP "Current Source Positive Input. Connect to the anode of the external diodeconnected transistor. Do not leave DXP floating. Connect a 2200pF capacitor between DXP and DXN for noise filtering.", 4 DXN "Current Sink Negative Input. Connect to the cathode of the external diodeconnected transistor. DXN is internally biased to a diode voltage drop.", 5 ~{FORCEON} (in) "Fan-Control Input. Drive F\O\R\C\E\O\N\ high for normal operation. Drive F\O\R\C\E\O\N\ low to force fan on.", 6 ~{OT} (oc) "Overtemperature Output. O\T\ is an open-drain output that goes low when the sensed junction temperature is 30degC higher than the fan trip threshold.", 7 GND (power) "Ground", 8 VDD (power) "Positive Power Supply", 9 HYST (in) "Hysteresis Control Input. HYST is a three-level logic input for controlling the fandrive comparator’s hysteresis. Connect HYST to GND for 4degreesC hysteresis, to VDD for 12degreesC hysteresis, or leave floating for (See Datasheet)", 10 ~{FANOUT} (oc) "Fan-Drive Output. F\A\N\O\U\T\ is an open-drain power MOSFET that sinks up to 250mA current to turn on the fan when the sensed temperature exceeds the fan trip threshold or the fan is forced on by driving F\O\R\C\E\O\N\ low."

## MAX6670AUB50
designator U?
Remote Temperature Switch with Integrated Fan Driver, Bits Tempearture Resolution, -40 to 125 degC, 10-Pin SOP (U10CN-1); Generic Part Number: MAX6670; PartNumber: MAX6670AUB50; Fan Cntrl.: Linear; Fan Controller Functions: Temperature Switch/Temperature Comparator; Interface: Logic; DatasheetVersion: Rev. 2; PackageVersion: Rev. L, 07/2008; PackageReference: U10CN-1; PackageDescription: 10-Pin Micro-MAX, Thin Shrink Small-Outline (U10CN-1), Body 3 x 3 mm, Pitch 0.5 mm; Supplier 1: Mouser; Supplier Part Number 1: N/A; Mounting Technology: Surface Mount; Code_JEDEC: MO-187; ComponentLink1Description: Manufacturer URL; ComponentLink1URL: http://www.maximintegrated.com/; ComponentLink2Description: Datasheet; ComponentLink2URL: http://datasheets.maximintegrated.com/en/ds/MAX6668-MAX6670.pdf; ComponentLink3Description: Package Specification; ComponentLink3URL: http://pdfserv.maximintegrated.com/package_dwgs/21-0061.PDF
footprint MAXM-U10CN-1_N (SOP, 10-Leads, Body 3x3mm, Pitch 0.5mm, IPC Medium Density)
footprint MAXM-U10CN-1_L (SOP, 10-Leads, Body 3x3mm, Pitch 0.5mm, IPC High Density)
footprint MAXM-U10CN-1_M (SOP, 10-Leads, Body 3x3mm, Pitch 0.5mm, IPC Low Density)
pins: 1 PGND (power) "Power Ground. PGND is the power ground for the F\A\N\O\U\T\ power MOSFET switch.", 2 ~{WARN} (oc) "Temperature Warning Output. W\A\R\N\ is an open-drain output that goes low when the sensed junction temperature is 15degreesC higher than the fan trip threshold", 3 DXP "Current Source Positive Input. Connect to the anode of the external diodeconnected transistor. Do not leave DXP floating. Connect a 2200pF capacitor between DXP and DXN for noise filtering.", 4 DXN "Current Sink Negative Input. Connect to the cathode of the external diodeconnected transistor. DXN is internally biased to a diode voltage drop.", 5 ~{FORCEON} (in) "Fan-Control Input. Drive F\O\R\C\E\O\N\ high for normal operation. Drive F\O\R\C\E\O\N\ low to force fan on.", 6 ~{OT} (oc) "Overtemperature Output. O\T\ is an open-drain output that goes low when the sensed junction temperature is 30degC higher than the fan trip threshold.", 7 GND (power) "Ground", 8 VDD (power) "Positive Power Supply", 9 HYST (in) "Hysteresis Control Input. HYST is a three-level logic input for controlling the fandrive comparator’s hysteresis. Connect HYST to GND for 4degreesC hysteresis, to VDD for 12degreesC hysteresis, or leave floating for (See Datasheet)", 10 ~{FANOUT} (oc) "Fan-Drive Output. F\A\N\O\U\T\ is an open-drain power MOSFET that sinks up to 250mA current to turn on the fan when the sensed temperature exceeds the fan trip threshold or the fan is forced on by driving F\O\R\C\E\O\N\ low."

## MAX6670AUB50+
designator U?
Remote Temperature Switch with Integrated Fan Driver, Bits Tempearture Resolution, -40 to 125 degC, 10-Pin SOP (U10CN+1), Pb-Free; Generic Part Number: MAX6670; PartNumber: MAX6670AUB50+; Fan Cntrl.: Linear; Fan Controller Functions: Temperature Switch/Temperature Comparator; Interface: Logic; DatasheetVersion: Rev. 2; PackageVersion: Rev. L, 07/2008; PackageReference: U10CN+1; PackageDescription: 10-Pin Micro-MAX, Thin Shrink Small-Outline (U10CN+1), Body 3 x 3 mm, Pitch 0.5 mm; Supplier 1: Digi-Key; Supplier Part Number 1: MAX6670AUB50+-ND; Supplier 2: Mouser; Supplier Part Number 2: 700-MAX6670AUB50; Mounting Technology: Surface Mount; Code_JEDEC: MO-187; ComponentLink1Description: Manufacturer URL; ComponentLink1URL: http://www.maximintegrated.com/; ComponentLink2Description: Datasheet; ComponentLink2URL: http://datasheets.maximintegrated.com/en/ds/MAX6668-MAX6670.pdf; ComponentLink3Description: Package Specification; ComponentLink3URL: http://pdfserv.maximintegrated.com/package_dwgs/21-0061.PDF
footprint MAXM-U10CN+1_N (SOP, 10-Leads, Body 3x3mm, Pitch 0.5mm, IPC Medium Density)
footprint MAXM-U10CN+1_L (SOP, 10-Leads, Body 3x3mm, Pitch 0.5mm, IPC High Density)
footprint MAXM-U10CN+1_M (SOP, 10-Leads, Body 3x3mm, Pitch 0.5mm, IPC Low Density)
pins: 1 PGND (power) "Power Ground. PGND is the power ground for the F\A\N\O\U\T\ power MOSFET switch.", 2 ~{WARN} (oc) "Temperature Warning Output. W\A\R\N\ is an open-drain output that goes low when the sensed junction temperature is 15degreesC higher than the fan trip threshold", 3 DXP "Current Source Positive Input. Connect to the anode of the external diodeconnected transistor. Do not leave DXP floating. Connect a 2200pF capacitor between DXP and DXN for noise filtering.", 4 DXN "Current Sink Negative Input. Connect to the cathode of the external diodeconnected transistor. DXN is internally biased to a diode voltage drop.", 5 ~{FORCEON} (in) "Fan-Control Input. Drive F\O\R\C\E\O\N\ high for normal operation. Drive F\O\R\C\E\O\N\ low to force fan on.", 6 ~{OT} (oc) "Overtemperature Output. O\T\ is an open-drain output that goes low when the sensed junction temperature is 30degC higher than the fan trip threshold.", 7 GND (power) "Ground", 8 VDD (power) "Positive Power Supply", 9 HYST (in) "Hysteresis Control Input. HYST is a three-level logic input for controlling the fandrive comparator’s hysteresis. Connect HYST to GND for 4degreesC hysteresis, to VDD for 12degreesC hysteresis, or leave floating for (See Datasheet)", 10 ~{FANOUT} (oc) "Fan-Drive Output. F\A\N\O\U\T\ is an open-drain power MOSFET that sinks up to 250mA current to turn on the fan when the sensed temperature exceeds the fan trip threshold or the fan is forced on by driving F\O\R\C\E\O\N\ low."

## MAX6670AUB50+T
designator U?
Remote Temperature Switch with Integrated Fan Driver, Bits Tempearture Resolution, -40 to 125 degC, 10-Pin SOP (U10CN+1), Pb-Free, Tape and Reel; Generic Part Number: MAX6670; PartNumber: MAX6670AUB50+T; Fan Cntrl.: Linear; Fan Controller Functions: Temperature Switch/Temperature Comparator; Interface: Logic; DatasheetVersion: Rev. 2; PackageVersion: Rev. L, 07/2008; PackageReference: U10CN+1; PackageDescription: 10-Pin Micro-MAX, Thin Shrink Small-Outline (U10CN+1), Body 3 x 3 mm, Pitch 0.5 mm; Supplier 1: Digi-Key; Supplier Part Number 1: MAX6670AUB50+T-ND; Supplier 2: Mouser; Supplier Part Number 2: 700-MAX6670AUB50T; Packing: Tape and Reel; Mounting Technology: Surface Mount; Code_JEDEC: MO-187; ComponentLink1Description: Manufacturer URL; ComponentLink1URL: http://www.maximintegrated.com/; ComponentLink2Description: Datasheet; ComponentLink2URL: http://datasheets.maximintegrated.com/en/ds/MAX6668-MAX6670.pdf; ComponentLink3Description: Package Specification; ComponentLink3URL: http://pdfserv.maximintegrated.com/package_dwgs/21-0061.PDF
footprint MAXM-U10CN+1_N (SOP, 10-Leads, Body 3x3mm, Pitch 0.5mm, IPC Medium Density)
footprint MAXM-U10CN+1_L (SOP, 10-Leads, Body 3x3mm, Pitch 0.5mm, IPC High Density)
footprint MAXM-U10CN+1_M (SOP, 10-Leads, Body 3x3mm, Pitch 0.5mm, IPC Low Density)
pins: 1 PGND (power) "Power Ground. PGND is the power ground for the F\A\N\O\U\T\ power MOSFET switch.", 2 ~{WARN} (oc) "Temperature Warning Output. W\A\R\N\ is an open-drain output that goes low when the sensed junction temperature is 15degreesC higher than the fan trip threshold", 3 DXP "Current Source Positive Input. Connect to the anode of the external diodeconnected transistor. Do not leave DXP floating. Connect a 2200pF capacitor between DXP and DXN for noise filtering.", 4 DXN "Current Sink Negative Input. Connect to the cathode of the external diodeconnected transistor. DXN is internally biased to a diode voltage drop.", 5 ~{FORCEON} (in) "Fan-Control Input. Drive F\O\R\C\E\O\N\ high for normal operation. Drive F\O\R\C\E\O\N\ low to force fan on.", 6 ~{OT} (oc) "Overtemperature Output. O\T\ is an open-drain output that goes low when the sensed junction temperature is 30degC higher than the fan trip threshold.", 7 GND (power) "Ground", 8 VDD (power) "Positive Power Supply", 9 HYST (in) "Hysteresis Control Input. HYST is a three-level logic input for controlling the fandrive comparator’s hysteresis. Connect HYST to GND for 4degreesC hysteresis, to VDD for 12degreesC hysteresis, or leave floating for (See Datasheet)", 10 ~{FANOUT} (oc) "Fan-Drive Output. F\A\N\O\U\T\ is an open-drain power MOSFET that sinks up to 250mA current to turn on the fan when the sensed temperature exceeds the fan trip threshold or the fan is forced on by driving F\O\R\C\E\O\N\ low."